# Altium footprint library Lib.PcbLib: 14 footprints
Each footprint in its own frame and in the unit in brackets; x right, y up, seen from the top. Pads: shape width x height; smd on the part's side, far side on the other; paste and mask are expansions set on the pad; w line width, h text height; cw(c..) or ccw(c..) is an arc to the next point about the centre after c.
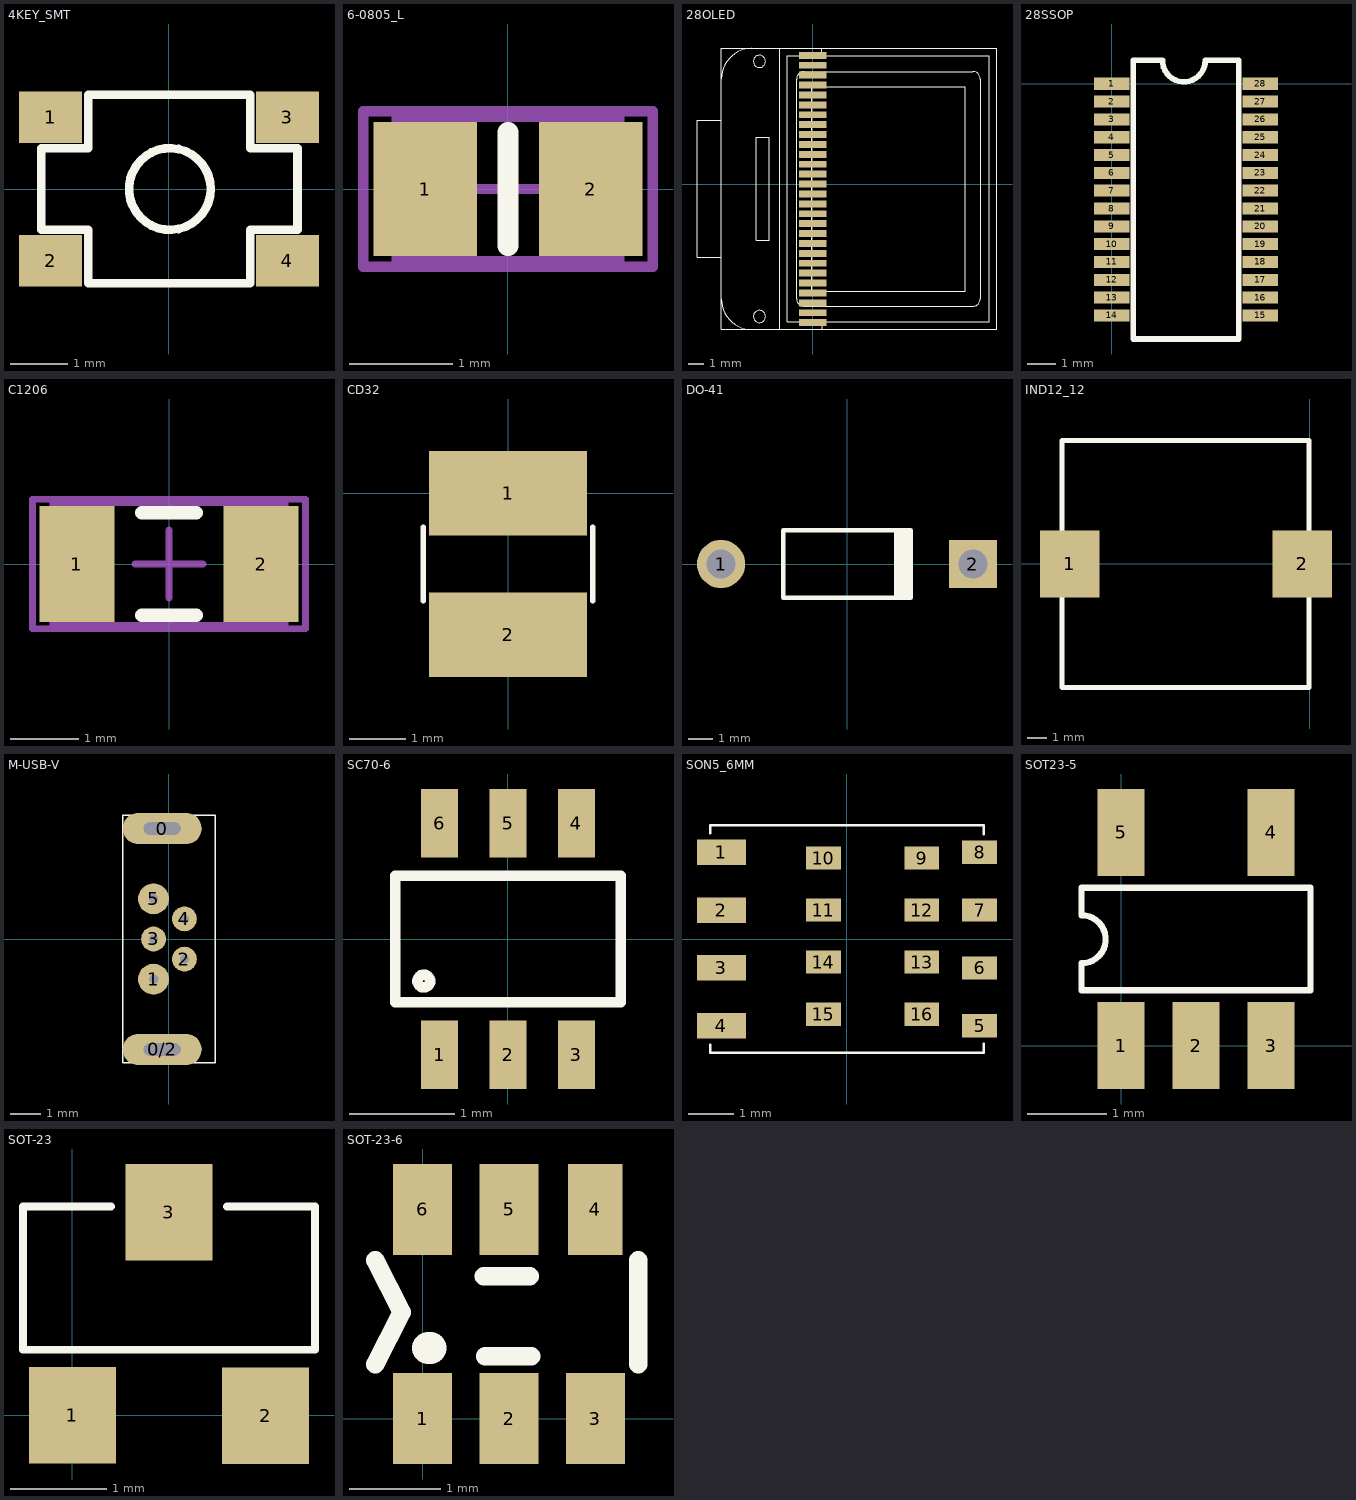
[diagram p0: the footprints below, top view; thin cyan lines are the x and y axes]

## 4KEY_SMT [mm]
pads (4):
  rect 1.1x0.9 smd: 1(-2.06,1.25) 2(-2.06,-1.25) 3(2.06,1.25) 4(2.06,-1.25)
Top Overlay:
  circle w0.15: c0.015,0 r0.711
  lines w0.15: -2.225,-0.71 -1.405,-0.71 -1.405,-1.64 1.385,-1.64 1.415,-1.64 1.415,-0.71 2.235,-0.71 2.235,0.71 1.415,0.71 1.415,1.64 1.385,1.64 -1.405,1.64 -1.405,0.71 -2.225,0.71 -2.225,-0.71

## 6-0805_L [mm] "Chip Resistor, Body 2.0x1.2mm, IPC High Density"
height 0.7
pads (2):
  rect 1x1.3 smd: 1(-0.8,0) 2(0.8,0)
Top Overlay:
  lines w0.2: 0,-0.55 0,0.55
Mechanical 13:
  lines w0.1: -1.075,-0.7 -1.075,0.7 1.075,0.7 1.075,-0.7 -1.075,-0.7
Mechanical 15:
  lines w0.1: -0.5,0 0.5,0 ; 0,-0.5 0,0.5 ; -1.4,-0.75 -1.4,0.75 1.4,0.75 1.4,-0.75 -1.4,-0.75
3D body: height 0.7, standoff 0, extent -1.075,-0.7 1.075,0.7

## 28OLED [mm]
height 0.8
pads (28):
  rect 1.8x0.45 smd: 1(0,8.45) 2(0,7.8) 3(0,7.15) 4(0,6.5) 5(0,5.85) 6(0,5.2) 7(0,4.55) 8(0,3.9) 9(0,3.25) 10(0,2.6) 11(0,1.95) 12(0,1.3) 13(0,0.65) 14(0,0) 15(0,-0.65) 16(0,-1.3) 17(0,-1.95) 18(0,-2.6) 19(0,-3.25) 20(0,-3.9) 21(0,-4.55) 22(0,-5.2) 23(0,-5.85) 24(0,-6.5) 25(0,-7.15) 26(0,-7.8) 27(0,-8.45) 28(0,-9.1)
Top Overlay:
  circle w0.05: c-3.5,-8.695 r0.4
  circle w0.05: c-3.5,8.055 r0.4
  lines w0.05: -6,-7.55 ccw(c-4,-7.55) -4,-9.55 ; -6,-4.82 -7.6,-4.82 -7.6,4.18 -6,4.18 ; -6,-1.89 -6,-0.54 ; -6,6.91 cw(c-4,6.91) -4,8.91 ; -2.16,-9.53 -2.16,8.91 ; 0.6,8.425 0.6,8.755 0.6,8.9 0.61,8.91 ; 0.61,-9.55 0.61,-9.05 ; -6,-9.55 12.1,-9.55 12.1,8.91 -6,8.91 -6,-9.55 ; -3.72,-3.7 -3.72,3.06 -2.86,3.06 -2.86,-3.7 -3.72,-3.7 ; -1.66,-9.05 11.6,-9.05 11.6,8.41 -1.66,8.41 -1.66,-9.05 ; -1.06,-7.53 ccw(c-0.56,-7.53) -0.56,-8.03 10.5,-8.03 ccw(c10.5,-7.53) 11,-7.53 11,6.89 ccw(c10.5,6.89) 10.5,7.39 -0.56,7.39 ccw(c-0.56,6.89) -1.06,6.89 -1.06,-7.53 ; -0.06,-7.03 10,-7.03 10,6.39 -0.06,6.39 -0.06,-7.03

## 28SSOP [mil]
pads (28):
  rect 50x17 smd: 1(0,0) 2(0,-25) 3(0,-50) 4(0,-75) 5(0,-100) 6(0,-125) 7(0,-150) 8(0,-175) 9(0,-200) 10(0,-225) 11(0,-250) 12(0,-275) 13(0,-300) 14(0,-325) 15(208,-325) 16(208,-300) 17(208,-275) 18(208,-250) 19(208,-225) 20(208,-200) 21(208,-175) 22(208,-150) 23(208,-125) 24(208,-100) 25(208,-75) 26(208,-50) 27(208,-25) 28(208,0)
Top Overlay:
  lines w8: 30,-358 30,33 71,33 ccw(c101,32.7) 131,33.01 178,33 178,-358 30,-358

## C1206 [mm] "Chip Capacitor, Body 3.2x1.6mm, IPC High Density"
height 1.3
pads (2):
  rect 1.1x1.7 smd: 1(-1.35,0) 2(1.35,0)
Top Overlay:
  lines w0.2: -0.4,-0.75 0.4,-0.75 ; -0.4,0.75 0.4,0.75
Mechanical 13:
  lines w0.1: -1.7,-0.9 -1.7,0.9 1.7,0.9 1.7,-0.9 -1.7,-0.9
Mechanical 15:
  lines w0.1: -0.5,0 0.5,0 ; 0,-0.5 0,0.5 ; -2,-0.95 -2,0.95 2,0.95 2,-0.95 -2,-0.95
3D body: height 1.3, standoff 0, extent -1.7,-0.9 1.7,0.9

## CD32 [mm]
pads (2):
  rect 2.8x1.5 smd: 1(0,0) 2(0,-2.5)
Top Overlay:
  lines w0.1: -1.5,-1.9 -1.5,-0.6 ; 1.5,-1.9 1.5,-0.6

## DO-41 [mm] "Diode, Axial; Body 5.2 x 2.7 mm (LxDia. max), Lead Dia. 0.86 mm (max)"
height 2.8
pads (2):
  round 2 hole 1.2: 1(-5.23,0)
  rect 2x2 hole 1.2: 2(5.23,0)
Top Overlay:
  rectangle: 1.95,-1.4 2.75,1.4
  lines w0.2: 2.65,-1.4 -2.65,-1.4 -2.65,1.4 2.65,1.4

## IND12_12 [mm]
pads (2):
  rect 3x3.4 smd: 1(-12.119,0) 2(-0.381,0)
Top Overlay:
  lines w0.254: -12.5,-6.223 -12.5,6.223 -0.054,6.223 -0.054,-6.223 -12.5,-6.223

## M-USB-V [mm]
height 3.5
pads (7):
  oval 2.56x1 hole 0.4 slot 1.2 at 0 deg: 0(-0.22,3.575) 0/2(-0.22,-3.575)
  round 1 hole 0.31: 1(-0.5,-1.3)
  round 0.8 hole 0.3: 2(0.5,-0.65) 3(-0.5,0) 4(0.5,0.65)
  round 1 hole 0.3: 5(-0.5,1.3)
Top Overlay:
  lines w0.051: -1.5,-4 -1.5,4 1.5,4 1.5,-4 -1.5,-4

## SC70-6 [mm]
height 3.8
pads (6):
  rect 0.35x0.65 smd: 1(-0.65,-1.1) 2(0,-1.1) 3(0.65,-1.1) 4(0.65,1.1) 5(0,1.1) 6(-0.65,1.1)
Top Overlay:
  circle w0.1: c-0.8,-0.4 r0.06
  lines w0.1: -1.07,-0.6 1.07,-0.6 1.07,0.6 -1.07,0.6 -1.07,-0.6

## SON5_6MM [mil]
pads (16):
  rect 42.2x22.13 smd: 1(-108.54,75) 2(-108.54,25) 3(-108.54,-25) 4(-108.54,-75)
  rect 30.16x20 smd: 5(114.57,-75) 6(114.57,-25) 7(114.57,25) 8(114.57,75) 9(64.57,70) 10(-20.43,70) 11(-20.43,25) 12(64.57,25) 13(64.57,-20) 14(-20.43,-20) 15(-20.43,-65) 16(64.57,-65)
Top Overlay:
  lines w1.97: -118.11,-91.34 -118.11,-98.43 118.11,-98.43 118.11,-90.55 ; -118.11,91.34 -118.11,98.43 118.11,98.43 118.11,90.55

## SOT23-5 [mm]
height 5.4
pads (5):
  rect 0.6x1.1 smd: 1(0,0) 2(0.95,0) 3(1.9,0) 4(1.9,2.7) 5(0,2.7)
Top Overlay:
  lines w0.08: -0.5,0.7 -0.5,1.041 ccw(c-0.5,1.346) -0.5,1.651 -0.5,2 2.4,2 2.4,0.7 -0.5,0.7

## SOT-23 [mm]
pads (3):
  rect 0.9x1 smd: 1(0,0) 2(2.001,-0.007) 3(1,2.1)
Top Overlay:
  lines w0.08: 0.4,2.159 -0.513,2.159 -0.513,0.675 2.513,0.675 2.513,2.159 1.6,2.159

## SOT-23-6 [mm]
pads (6):
  rect 0.65x1 smd: 1(0,0) 2(0.95,0) 3(1.9,0) 5(0.95,2.3) 6(0,2.3)
  rect 0.6x1 smd: 4(1.9,2.3)
Top Overlay:
  lines w0.203: -0.523,0.597 -0.229,1.168 -0.523,1.74 ; 0.671,1.563 1.179,1.563 ; 0.686,0.686 1.194,0.686 ; 2.373,0.597 2.373,1.74
  lines w0.355: 0.062,0.775 0.087,0.775